# EAGLE library part PMEA-PIEFOUNDRY-64CHAN (library pmea-piefoundry)
64 channel polymer microelectrode array (pMEA) connector ; Connection requires 64 wirebond (soft-gold) pads for ultrasonic bump bonding; Legacy design maintained for compatibility with PIE Foundry Standard Array v1 3/25/25 Kee Scholten PIE Foundry @ USC
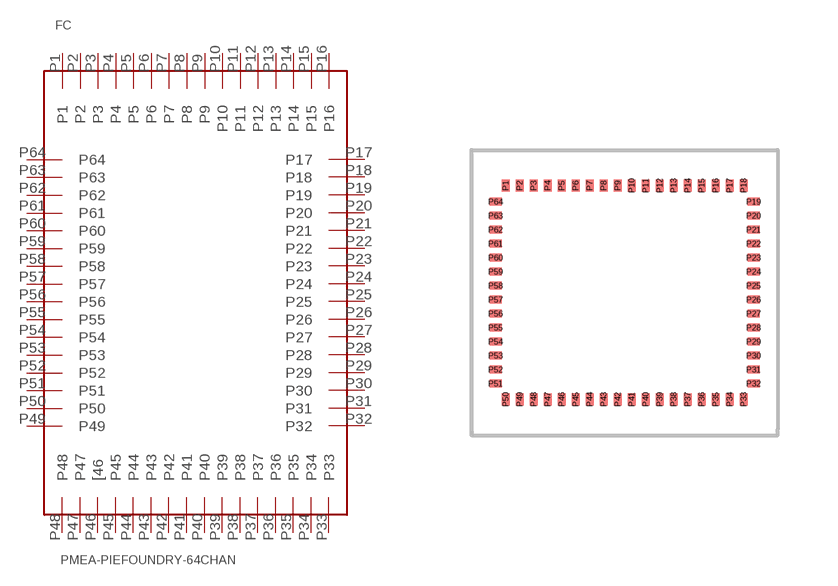
[diagram p0: symbol with the pads of PMEA-PIEFOUNDRY-64CHAN; footprint PMEA-PIEFOUNDRY-64CHAN]

Designator prefix FC

## PMEA-PIEFOUNDRY-64CHAN  [PMEA-PIEFOUNDRY-64CHAN]
P1  P1
P2  P2
P3  P3
P4  P4
P5  P5
P6  P6
P7  P7
P8  P8
P9  P9
P10  P10
P11  P11
P12  P12
P13  P13
P14  P14
P15  P15
P16  P16
P17  P17
P18  P18
P19  P19
P20  P20
P21  P21
P22  P22
P23  P23
P24  P24
P25  P25
P26  P26
P27  P27
P28  P28
P29  P29
P30  P30
P31  P31
P32  P32
P33  P33
P34  P34
P35  P35
P36  P36
P37  P37
P38  P38
P39  P39
P40  P40
P41  P41
P42  P42
P43  P43
P44  P44
P45  P45
P46  [46
P47  P47
P48  P48
P49  P49
P50  P50
P51  P51
P52  P52
P53  P53
P54  P54
P55  P55
P56  P56
P57  P57
P58  P58
P59  P59
P60  P60
P61  P61
P62  P62
P63  P63
P64  P64

## Footprint PMEA-PIEFOUNDRY-64CHAN (pad centres in mm)
Parylene C Bond Pad for Standard PIE Foundry 64 Pad MEA Connector
smd 0.2 x 0.3: P1 -2.975,2.675; P2 -2.625,2.675; P3 -2.275,2.675; P4 -1.925,2.675; P5 -1.575,2.675; P6 -1.225,2.675; P7 -0.875,2.675; P8 -0.525,2.675; P9 -0.175,2.675; P10 0.175,2.675; P11 0.525,2.675; P12 0.875,2.675; P13 1.225,2.675; P14 1.575,2.675; P15 1.925,2.675; P16 2.275,2.675; P17 2.625,2.675; P18 2.975,2.675; P33 2.975,-2.675; P34 2.625,-2.675; P35 2.275,-2.675; P36 1.925,-2.675; P37 1.575,-2.675; P38 1.225,-2.675; P39 0.875,-2.675; P40 0.525,-2.675; P41 0.175,-2.675; P42 -0.175,-2.675; P43 -0.525,-2.675; P44 -0.875,-2.675; P45 -1.225,-2.675; P46 -1.575,-2.675; P47 -1.925,-2.675; P48 -2.275,-2.675; P49 -2.625,-2.675; P50 -2.975,-2.675
smd 0.3 x 0.2: P19 3.225,2.275; P20 3.225,1.925; P21 3.225,1.575; P22 3.225,1.225; P23 3.225,0.875; P24 3.225,0.525; P25 3.225,0.175; P26 3.225,-0.175; P27 3.225,-0.525; P28 3.225,-0.875; P29 3.225,-1.225; P30 3.225,-1.575; P31 3.225,-1.925; P32 3.225,-2.275; P51 -3.225,-2.275; P52 -3.225,-1.925; P53 -3.225,-1.575; P54 -3.225,-1.225; P55 -3.225,-0.875; P56 -3.225,-0.525; P57 -3.225,-0.175; P58 -3.225,0.175; P59 -3.225,0.525; P60 -3.225,0.875; P61 -3.225,1.225; P62 -3.225,1.575; P63 -3.225,1.925; P64 -3.225,2.275